# Altium footprint library FSM_2017.PcbLib: 28 footprints (part 1 of 2)
Each footprint in its own frame and in the unit in brackets; x right, y up, seen from the top. Pads: shape width x height; smd on the part's side, far side on the other; paste and mask are expansions set on the pad; w line width, h text height; cw(c..) or ccw(c..) is an arc to the next point about the centre after c.
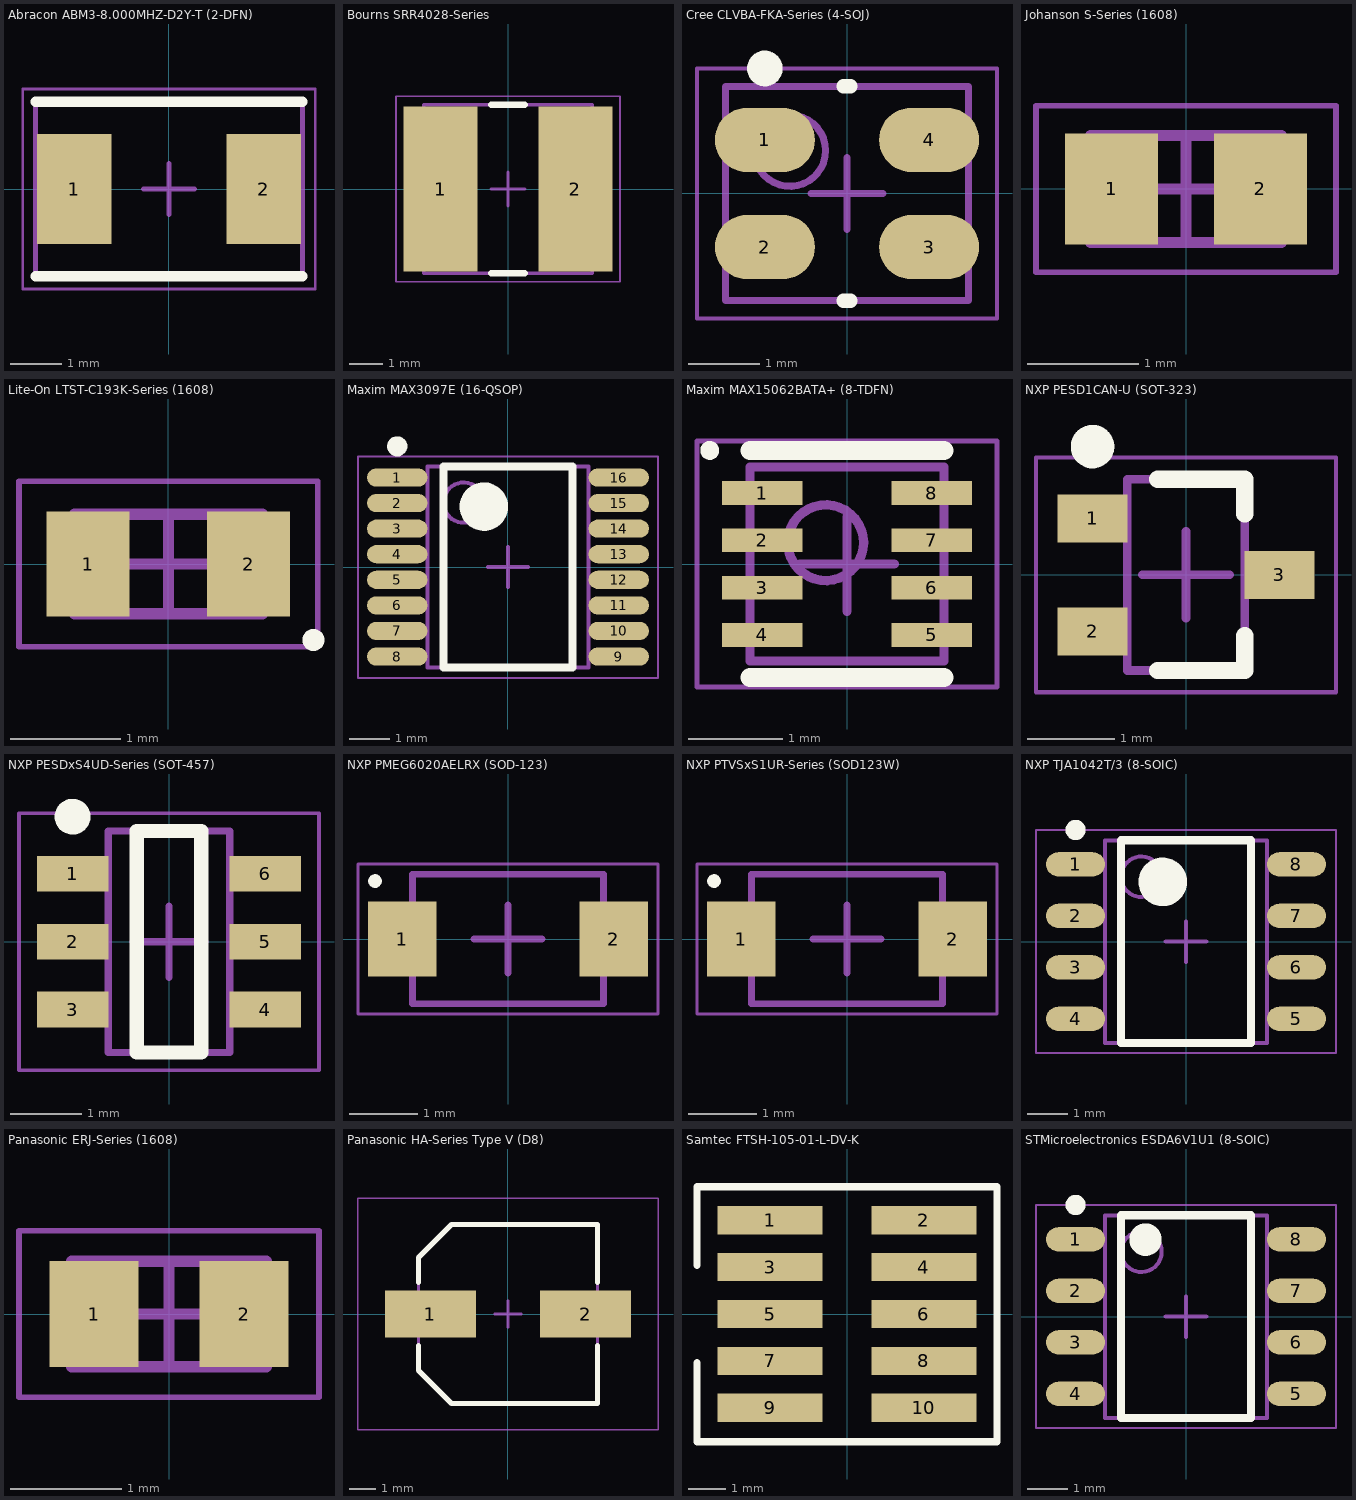
[diagram p0: the footprints below, top view; thin cyan lines are the x and y axes]

## Abracon ABM3-8.000MHZ-D2Y-T (2-DFN) [mm] "8MHz +/-30ppm Ceramic Crystal"
height 1.3
pads (2):
  rect 1.45x2.15 smd: 1(-1.85,0) 2(1.85,0)
Top Overlay:
  lines w0.2: -2.6,-1.7 2.6,-1.7 ; -2.6,1.7 2.6,1.7
Mechanical 13:
  lines w0.1: -2.6,-1.7 2.6,-1.7 2.6,1.7 -2.6,1.7 -2.6,-1.7
Mechanical 15:
  lines w0.05: -2.85,-1.95 2.85,-1.95 2.85,1.95 -2.85,1.95 -2.85,-1.95
  lines w0.1: -0.5,0 0.5,0 ; 0,-0.5 0,0.5
3D body "ABM3.STEP": height 1.3, standoff 0, extent -2.5,-1.6 2.5,1.6

## Bourns SRR4028-Series [mm] "Shielded Power Inductor"
height 3
pads (2):
  rect 2.2x4.9 smd: 1(-2,0) 2(2,0)
Top Overlay:
  lines w0.2: -0.5,-2.5 0.5,-2.5 ; -0.5,2.5 0.5,2.5
Mechanical 13:
  lines w0.1: -2.5,-2.5 2.5,-2.5 2.5,2.5 -2.5,2.5 -2.5,-2.5
Mechanical 15:
  lines w0.05: -3.325,-2.75 3.325,-2.75 3.325,2.75 -3.325,2.75 -3.325,-2.75
  lines w0.1: -0.5,0 0.5,0 ; 0,-0.5 0,0.5
3D body: height 3, standoff 0, extent -2.5,-2.5 2.5,2.5

## Cree CLVBA-FKA-Series (4-SOJ) [mm] "RGB LED"
height 2.1
pads (4):
  oval 1.4x0.9 smd: 1(-1.15,0.75) 2(-1.15,-0.75) 3(1.15,-0.75) 4(1.15,0.75)
Top Overlay:
  circle w0.25: c-1.15,1.75 r0.125
  lines w0.2: -0.05,-1.5 0.05,-1.5 ; -0.05,1.5 0.05,1.5
Mechanical 13:
  circle w0.1: c-0.8,0.6 r0.5
  lines w0.1: -1.7,-1.5 -1.7,1.5 1.7,1.5 1.7,-1.5 -1.7,-1.5
Mechanical 15:
  lines w0.05: -2.1,-1.75 -2.1,1.75 2.1,1.75 2.1,-1.75 -2.1,-1.75
  lines w0.1: -0.5,0 0.5,0 ; 0,-0.5 0,0.5
3D body: height 2.1, standoff 0.23, extent -1.7,-1.5 1.7,1.5

## Johanson S-Series (1608) [mm] "High-Q Multilayer Ceramic Chip Capacitor"
height 0.89
pads (2):
  rect 0.84x1 smd: 1(-0.67,0) 2(0.67,0)
Mechanical 13:
  lines w0.1: -0.86,-0.48 -0.86,0.48 0.86,0.48 0.86,-0.48 -0.86,-0.48
Mechanical 15:
  lines w0.05: -1.35,-0.75 -1.35,0.75 1.35,0.75 1.35,-0.75 -1.35,-0.75
  lines w0.1: -0.48,0 0.48,0 ; 0,-0.48 0,0.48
3D body: height 0.89, standoff 0, extent -0.53,-0.48 0.53,0.48
3D body: height 0.89, standoff 0, extent -0.86,-0.48 -0.53,0.48
3D body: height 0.89, standoff 0, extent 0.53,-0.48 0.86,0.48

## Lite-On LTST-C193K-Series (1608) [mm] "Chip LED"
height 0.35
pads (2):
  rect 0.75x0.95 smd: 1(-0.725,0) 2(0.725,0)
Top Overlay:
  circle w0.1: c1.312,-0.687 r0.05
Mechanical 13:
  lines w0.1: -0.85,-0.45 -0.85,0.45 0.85,0.45 0.85,-0.45 -0.85,-0.45
Mechanical 15:
  lines w0.05: -1.35,-0.75 -1.35,0.75 1.35,0.75 1.35,-0.75 -1.35,-0.75
  lines w0.1: -0.45,0 0.45,0 ; 0,-0.45 0,0.45
3D body: height 0.35, standoff 0, extent -0.55,-0.45 0.55,0.45
3D body: height 0.35, standoff 0, extent -0.85,-0.45 -0.55,0.45
3D body: height 0.35, standoff 0, extent 0.55,-0.45 0.85,0.45

## Maxim MAX3097E (16-QSOP) [mm] "Triple RS-422/RS-485 Receiver"
height 1.73
pads (16):
  oval 1.5x0.45 smd: 1(-2.75,2.222) 2(-2.75,1.587) 3(-2.75,0.953) 4(-2.75,0.318) 5(-2.75,-0.318) 6(-2.75,-0.953) 7(-2.75,-1.587) 8(-2.75,-2.222) 9(2.75,-2.222) 10(2.75,-1.587) 11(2.75,-0.953) 12(2.75,-0.318) 13(2.75,0.318) 14(2.75,0.953) 15(2.75,1.587) 16(2.75,2.222)
Top Overlay:
  circle w0.25: c-2.75,2.997 r0.125
  circle w0.6: c-0.6,1.5 r0.3
  lines w0.2: -1.6,-2.5 -1.6,2.5 1.6,2.5 1.6,-2.5 -1.6,-2.5
Mechanical 13:
  circle w0.1: c-1.1,1.6 r0.5
  lines w0.1: -2,-2.5 -2,2.5 2,2.5 2,-2.5 -2,-2.5
Mechanical 15:
  lines w0.05: -3.725,-2.75 -3.725,2.75 3.725,2.75 3.725,-2.75 -3.725,-2.75
  lines w0.1: -0.5,0 0.5,0 ; 0,-0.5 0,0.5
3D body: height 1.73, standoff 0.25, extent -2,-2.5 2,2.5

## Maxim MAX15062BATA+ (8-TDFN) [mm] "5V 300mA Step-Down DC-DC Regulator"
height 0.8
pads (8):
  rect 0.85x0.25 smd mask+0: 1(-0.895,0.75) 2(-0.895,0.25) 3(-0.895,-0.25) 4(-0.895,-0.75) 5(0.895,-0.75) 6(0.895,-0.25) 7(0.895,0.25) 8(0.895,0.75)
Top Overlay:
  circle w0.1: c-1.45,1.2 r0.05
  lines w0.2: -1.025,-1.2 1.025,-1.2 ; -1.025,1.2 1.025,1.2
Mechanical 13:
  circle w0.1: c-0.225,0.225 r0.4
  lines w0.1: -1.025,-1.025 1.025,-1.025 1.025,1.025 -1.025,1.025 -1.025,-1.025
Mechanical 15:
  lines w0.05: -1.585,-1.3 1.585,-1.3 1.585,1.3 -1.585,1.3 -1.585,-1.3
  lines w0.1: -0.5,0 0.5,0 ; 0,-0.5 0,0.5
3D body: height 0.8, standoff 0, extent -1.025,-1.025 1.025,1.025

## NXP PESD1CAN-U (SOT-323) [mm] "CAN TVS Diode"
height 1.1
pads (3):
  rect 0.8x0.55 smd: 1(-1.075,0.65) 2(-1.075,-0.65) 3(1.075,0)
Top Overlay:
  circle w0.25: c-1.075,1.475 r0.125
  lines w0.2: -0.325,-1.1 0.675,-1.1 0.675,-0.7 ; -0.325,1.1 0.675,1.1 0.675,0.7
Mechanical 13:
  lines w0.1: -0.675,-1.1 0.675,-1.1 0.675,1.1 -0.675,1.1 -0.675,-1.1
Mechanical 15:
  lines w0.05: -1.725,-1.35 1.725,-1.35 1.725,1.35 -1.725,1.35 -1.725,-1.35
  lines w0.1: -0.5,0 0.5,0 ; 0,-0.5 0,0.5
3D body: height 1.1, standoff 0, extent -0.675,-1.1 0.675,1.1

## NXP PESDxS4UD-Series (SOT-457) [mm] "200W Quad TVS Diode Array"
height 1.1
pads (6):
  rect 1x0.5 smd: 1(-1.35,0.95) 2(-1.35,0) 3(-1.35,-0.95) 4(1.35,-0.95) 5(1.35,0) 6(1.35,0.95)
Top Overlay:
  circle w0.25: c-1.35,1.75 r0.125
  lines w0.2: -0.45,-1.55 -0.45,1.55 0.45,1.55 0.45,-1.55 -0.45,-1.55
Mechanical 13:
  lines w0.1: -0.85,-1.55 0.85,-1.55 0.85,1.55 -0.85,1.55 -0.85,-1.55
Mechanical 15:
  lines w0.05: -2.1,-1.8 2.1,-1.8 2.1,1.8 -2.1,1.8 -2.1,-1.8
  lines w0.1: -0.5,0 0.5,0 ; 0,-0.5 0,0.5
3D body: height 1.1, standoff 0.05, extent -0.85,-1.55 0.85,1.55

## NXP PMEG6020AELRX (SOD-123) [mm] "60V 2A Schottky Diode"
height 1.1
pads (2):
  rect 1x1.1 smd: 1(-1.55,0) 2(1.55,0)
Top Overlay:
  circle w0.1: c-1.95,0.85 r0.05
Mechanical 13:
  lines w0.1: -1.4,-0.95 -1.4,0.95 1.4,0.95 1.4,-0.95 -1.4,-0.95
Mechanical 15:
  lines w0.05: -2.2,-1.1 -2.2,1.1 2.2,1.1 2.2,-1.1 -2.2,-1.1
  lines w0.1: -0.5,0 0.5,0 ; 0,-0.5 0,0.5
3D body: height 1.1, standoff 0, extent -1.4,-0.95 1.4,0.95

## NXP PTVSxS1UR-Series (SOD123W) [mm] "TVS Diode"
height 1.1
pads (2):
  rect 1x1.1 smd: 1(-1.55,0) 2(1.55,0)
Top Overlay:
  circle w0.1: c-1.95,0.85 r0.05
Mechanical 13:
  lines w0.1: -1.4,-0.95 1.4,-0.95 1.4,0.95 -1.4,0.95 -1.4,-0.95
Mechanical 15:
  lines w0.05: -2.2,-1.1 2.2,-1.1 2.2,1.1 -2.2,1.1 -2.2,-1.1
  lines w0.1: -0.5,0 0.5,0 ; 0,-0.5 0,0.5
3D body: height 1.1, standoff 0, extent -1.4,-0.95 1.4,0.95

## NXP TJA1042T/3 (8-SOIC) [mm] "High-Speed CAN Transceiver"
height 1.75
pads (8):
  oval 1.45x0.6 smd: 1(-2.725,1.905) 2(-2.725,0.635) 3(-2.725,-0.635) 4(-2.725,-1.905) 5(2.725,-1.905) 6(2.725,-0.635) 7(2.725,0.635) 8(2.725,1.905)
Top Overlay:
  circle w0.25: c-2.725,2.755 r0.125
  circle w0.6: c-0.575,1.475 r0.3
  lines w0.2: -1.6,-2.5 -1.6,2.5 1.6,2.5 1.6,-2.5 -1.6,-2.5
Mechanical 13:
  circle w0.1: c-1.1,1.6 r0.5
  lines w0.1: -2,-2.5 -2,2.5 2,2.5 2,-2.5 -2,-2.5
Mechanical 15:
  lines w0.05: -3.7,-2.75 -3.7,2.75 3.7,2.75 3.7,-2.75 -3.7,-2.75
  lines w0.1: -0.5,0 0.5,0 ; 0,-0.5 0,0.5
3D body: height 1.75, standoff 0.1, extent -2,-2.5 2,2.5

## Panasonic ERJ-Series (1608) [mm] "Thick Film Chip Resistor"
height 0.55
pads (2):
  rect 0.8x0.95 smd: 1(-0.675,0) 2(0.675,0)
Mechanical 13:
  lines w0.1: -0.875,-0.475 0.875,-0.475 0.875,0.475 -0.875,0.475 -0.875,-0.475
Mechanical 15:
  lines w0.05: -1.35,-0.75 1.35,-0.75 1.35,0.75 -1.35,0.75 -1.35,-0.75
  lines w0.1: -0.475,0 0.475,0 ; 0,-0.475 0,0.475
3D body: height 0.55, standoff 0, extent 0.575,-0.475 0.875,0.475
3D body: height 0.55, standoff 0, extent -0.875,-0.475 -0.575,0.475
3D body: height 0.55, standoff 0, extent -0.575,-0.475 0.575,0.475

## Panasonic HA-Series Type V (D8) [mm] "Aluminium Electrolytic Capacitor"
height 8
pads (2):
  rect 3.45x1.8 smd: 1(-2.95,0) 2(2.95,0)
Top Overlay:
  lines w0.2: -3.4,-1.2 -3.4,-2.15 -2.15,-3.4 3.4,-3.4 3.4,-1.2 ; -3.4,1.2 -3.4,2.15 -2.15,3.4 3.4,3.4 3.4,1.2
Mechanical 13:
  lines w0.1: -3.4,-2.15 -3.4,2.15 -2.15,3.4 3.4,3.4 3.4,-3.4 -2.15,-3.4 -3.4,-2.15
Mechanical 15:
  lines w0.05: -5.7,-4.4 5.7,-4.4 5.7,4.4 -5.7,4.4 -5.7,-4.4
  lines w0.1: -0.5,0 0.5,0 ; 0,-0.5 0,0.5
3D body "CAP_EEEHA_D8.stp": height 8.05, standoff 0, extent -3.899,-3.403 3.899,3.404

## Samtec FTSH-105-01-L-DV-K [mm] "10-Pin 1.27mm Shrouded Header"
pads (10):
  rect 2.8x0.75 smd: 1(-2.05,2.5) 2(2.05,2.5) 3(-2.05,1.25) 4(2.05,1.25) 5(-2.05,0) 6(2.05,0) 7(-2.05,-1.25) 8(2.05,-1.25) 9(-2.05,-2.5) 10(2.05,-2.5)
Top Overlay:
  lines w0.2: -4,-1.3 -4,-3.4 4,-3.4 4,3.4 -4,3.4 -4,1.3
3D body "FTSH-105-01-X-DV-K.step": height 6.11, standoff -0.01, extent -2.921,-3.137 2.921,3.137

## STMicroelectronics ESDA6V1U1 (8-SOIC) [mm] "6-Channel TVS Diode Array"
height 1.75
pads (8):
  oval 1.45x0.6 smd: 1(-2.725,1.905) 2(-2.725,0.635) 3(-2.725,-0.635) 4(-2.725,-1.905) 5(2.725,-1.905) 6(2.725,-0.635) 7(2.725,0.635) 8(2.725,1.905)
Top Overlay:
  circle w0.6: c-1,1.9 r0.1
  circle w0.25: c-2.725,2.755 r0.125
  lines w0.2: -1.6,-2.5 1.6,-2.5 1.6,2.5 -1.6,2.5 -1.6,-2.5
Mechanical 13:
  circle w0.1: c-1.1,1.6 r0.5
  lines w0.1: -2,-2.5 2,-2.5 2,2.5 -2,2.5 -2,-2.5
Mechanical 15:
  lines w0.05: -3.7,-2.75 3.7,-2.75 3.7,2.75 -3.7,2.75 -3.7,-2.75
  lines w0.1: -0.5,0 0.5,0 ; 0,-0.5 0,0.5
3D body: height 1.75, standoff 0.1, extent -2,-2.5 2,2.5